# Altium integrated library TLC555IDR.IntLib: 1 symbol
Pins are listed as number, name and electrical type; pins without a type are passive.

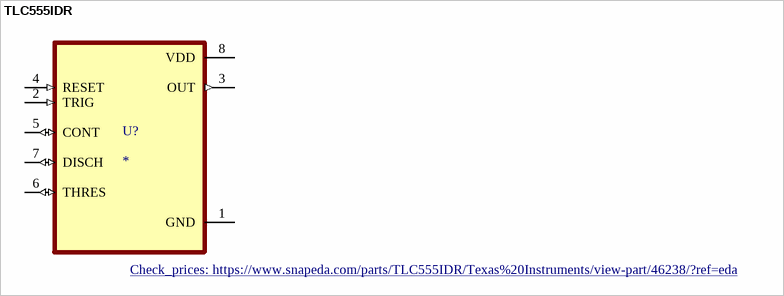
[diagram p0: symbol TLC555IDR]

## TLC555IDR
designator U?
2.1-MHz, 250-A, Low-Power Timer 8-SOIC -40 to 85; MP: TLC555IDR; MF: Texas Instruments; Purchase-URL: https://pricing.snapeda.com/search/part/TLC555IDR/?ref=eda; Package: SOIC-8 Texas Instruments; Value: *; Price: None; SnapEDA_Link: https://www.snapeda.com/parts/TLC555IDR/Texas%20Instruments/view-part/46238/?ref=snap; Availability: Good; Check_prices: https://www.snapeda.com/parts/TLC555IDR/Texas%20Instruments/view-part/46238/?ref=eda
footprint SOIC127P599X175-8N
pins: 1 GND (power), 2 TRIG (in), 3 OUT (out), 4 RESET (in), 5 CONT (io), 6 THRES (io), 7 DISCH (io), 8 VDD (power)